# Altium footprint library AltiumDesigner.PcbLib: 3 footprints
Each footprint in its own frame and in the unit in brackets; x right, y up, seen from the top. Pads: shape width x height; smd on the part's side, far side on the other; paste and mask are expansions set on the pad; w line width, h text height; cw(c..) or ccw(c..) is an arc to the next point about the centre after c.
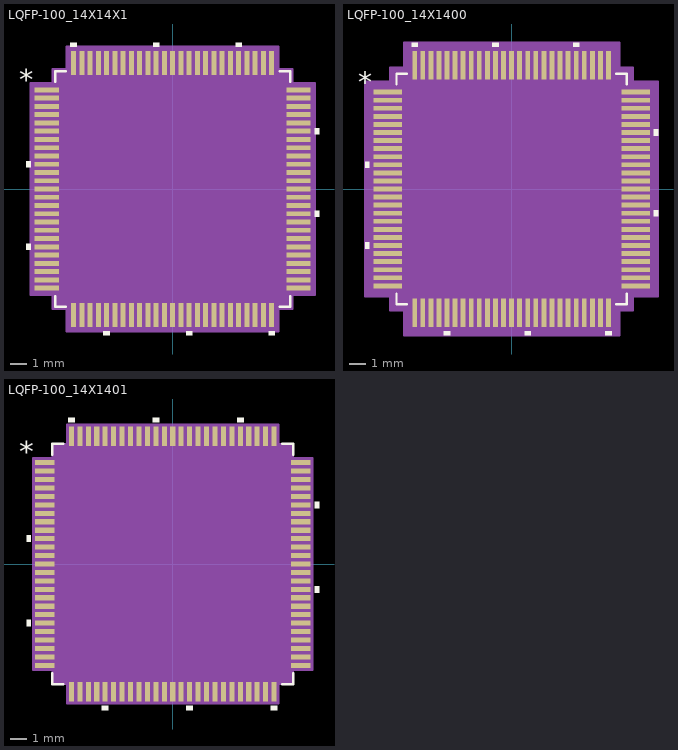
[diagram p0: the footprints below, top view; thin cyan lines are the x and y axes]

## LQFP-100_14X14X1 [mm]
pads (100):
  rect 1.461x0.3 smd paste+0 mask+0: 1(-7.625,6) 2(-7.625,5.5) 3(-7.625,5) 4(-7.625,4.5) 5(-7.625,4) 6(-7.625,3.5) 7(-7.625,3) 8(-7.625,2.5) 9(-7.625,2) 10(-7.625,1.5) 11(-7.625,1) 12(-7.625,0.5) 13(-7.625,0) 14(-7.625,-0.5) 15(-7.625,-1) 16(-7.625,-1.5) 17(-7.625,-2) 18(-7.625,-2.5) 19(-7.625,-3) 20(-7.625,-3.5) 21(-7.625,-4) 22(-7.625,-4.5) 23(-7.625,-5) 24(-7.625,-5.5) 25(-7.625,-6) 51(7.625,-6) 52(7.625,-5.5) 53(7.625,-5) 54(7.625,-4.5) 55(7.625,-4) 56(7.625,-3.5) 57(7.625,-3) 58(7.625,-2.5) 59(7.625,-2) 60(7.625,-1.5) 61(7.625,-1) 62(7.625,-0.5) 63(7.625,0) 64(7.625,0.5) 65(7.625,1) 66(7.625,1.5) 67(7.625,2) 68(7.625,2.5) 69(7.625,3) 70(7.625,3.5) 71(7.625,4) 72(7.625,4.5) 73(7.625,5) 74(7.625,5.5) 75(7.625,6)
  rect 0.3x1.461 smd paste+0 mask+0: 26(-6,-7.625) 27(-5.5,-7.625) 28(-5,-7.625) 29(-4.5,-7.625) 30(-4,-7.625) 31(-3.5,-7.625) 32(-3,-7.625) 33(-2.5,-7.625) 34(-2,-7.625) 35(-1.5,-7.625) 36(-1,-7.625) 37(-0.5,-7.625) 38(0,-7.625) 39(0.5,-7.625) 40(1,-7.625) 41(1.5,-7.625) 42(2,-7.625) 43(2.5,-7.625) 44(3,-7.625) 45(3.5,-7.625) 46(4,-7.625) 47(4.5,-7.625) 48(5,-7.625) 49(5.5,-7.625) 50(6,-7.625) 76(6,7.625) 77(5.5,7.625) 78(5,7.625) 79(4.5,7.625) 80(4,7.625) 81(3.5,7.625) 82(3,7.625) 83(2.5,7.625) 84(2,7.625) 85(1.5,7.625) 86(1,7.625) 87(0.5,7.625) 88(0,7.625) 89(-0.5,7.625) 90(-1,7.625) 91(-1.5,7.625) 92(-2,7.625) 93(-2.5,7.625) 94(-3,7.625) 95(-3.5,7.625) 96(-4,7.625) 97(-4.5,7.625) 98(-5,7.625) 99(-5.5,7.625) 100(-6,7.625)
Top Overlay:
  region: -5.81,8.61 -6.191,8.61 -6.191,8.864 -5.81,8.864
  region: -0.81,8.61 -1.191,8.61 -1.191,8.864 -0.81,8.864
  region: 4.19,8.61 3.809,8.61 3.809,8.864 4.19,8.864
  region: 8.61,3.691 8.864,3.691 8.864,3.31 8.61,3.31
  region: 8.61,-1.309 8.864,-1.309 8.864,-1.69 8.61,-1.69
  region: 6.191,-8.61 5.81,-8.61 5.81,-8.864 6.191,-8.864
  region: 1.191,-8.61 0.81,-8.61 0.81,-8.864 1.191,-8.864
  region: -3.809,-8.61 -4.19,-8.61 -4.19,-8.864 -3.809,-8.864
  region: -8.61,-3.31 -8.864,-3.31 -8.864,-3.691 -8.61,-3.691
  region: -8.61,1.69 -8.864,1.69 -8.864,1.309 -8.61,1.309
  lines w0.152: -7.127,-6.483 -7.127,-7.127 -6.483,-7.127 ; -7.127,6.483 -7.127,7.127 -6.483,7.127 ; 6.483,-7.127 7.127,-7.127 7.127,-6.483 ; 6.483,7.127 7.127,7.127 7.127,6.483
  text "*" at -9.308,5.996 h1.27
Mechanical 13:
  drawing of 405 lines, arcs and shapes, not listed
  text "*" at -6.936,5.615 h1.27
Mechanical 15:
  region: -6.404,-7.254 -7.254,-7.254 -7.254,-6.404 -8.61,-6.404 -8.61,6.404 -7.254,6.404 -7.254,7.254 -6.404,7.254 -6.404,8.61 6.404,8.61 6.404,7.254 7.254,7.254 7.254,6.404 8.61,6.404 8.61,-6.404 7.254,-6.404 7.254,-7.254 6.404,-7.254 6.404,-8.61 -6.404,-8.61
  lines w0.152: -8.61,-6.404 -8.61,6.404 -7.254,6.404 -7.254,7.254 -6.404,7.254 -6.404,8.61 6.404,8.61 6.404,7.254 7.254,7.254 7.254,6.404 8.61,6.404 8.61,-6.404 7.254,-6.404 7.254,-7.254 6.404,-7.254 6.404,-8.61 -6.404,-8.61 -6.404,-7.254 -7.254,-7.254 -7.254,-6.404 -8.61,-6.404
3D body: height 0.25, standoff 0, extent 0,0 0.254,0.254

## LQFP-100_14X1400 [mm]
pads (100):
  rect 1.766x0.3 smd paste+0 mask+0: 1(-7.676,6) 2(-7.676,5.5) 3(-7.676,5) 4(-7.676,4.5) 5(-7.676,4) 6(-7.676,3.5) 7(-7.676,3) 8(-7.676,2.5) 9(-7.676,2) 10(-7.676,1.5) 11(-7.676,1) 12(-7.676,0.5) 13(-7.676,0) 14(-7.676,-0.5) 15(-7.676,-1) 16(-7.676,-1.5) 17(-7.676,-2) 18(-7.676,-2.5) 19(-7.676,-3) 20(-7.676,-3.5) 21(-7.676,-4) 22(-7.676,-4.5) 23(-7.676,-5) 24(-7.676,-5.5) 25(-7.676,-6) 51(7.676,-6) 52(7.676,-5.5) 53(7.676,-5) 54(7.676,-4.5) 55(7.676,-4) 56(7.676,-3.5) 57(7.676,-3) 58(7.676,-2.5) 59(7.676,-2) 60(7.676,-1.5) 61(7.676,-1) 62(7.676,-0.5) 63(7.676,0) 64(7.676,0.5) 65(7.676,1) 66(7.676,1.5) 67(7.676,2) 68(7.676,2.5) 69(7.676,3) 70(7.676,3.5) 71(7.676,4) 72(7.676,4.5) 73(7.676,5) 74(7.676,5.5) 75(7.676,6)
  rect 0.3x1.766 smd paste+0 mask+0: 26(-6,-7.676) 27(-5.5,-7.676) 28(-5,-7.676) 29(-4.5,-7.676) 30(-4,-7.676) 31(-3.5,-7.676) 32(-3,-7.676) 33(-2.5,-7.676) 34(-2,-7.676) 35(-1.5,-7.676) 36(-1,-7.676) 37(-0.5,-7.676) 38(0,-7.676) 39(0.5,-7.676) 40(1,-7.676) 41(1.5,-7.676) 42(2,-7.676) 43(2.5,-7.676) 44(3,-7.676) 45(3.5,-7.676) 46(4,-7.676) 47(4.5,-7.676) 48(5,-7.676) 49(5.5,-7.676) 50(6,-7.676) 76(6,7.676) 77(5.5,7.676) 78(5,7.676) 79(4.5,7.676) 80(4,7.676) 81(3.5,7.676) 82(3,7.676) 83(2.5,7.676) 84(2,7.676) 85(1.5,7.676) 86(1,7.676) 87(0.5,7.676) 88(0,7.676) 89(-0.5,7.676) 90(-1,7.676) 91(-1.5,7.676) 92(-2,7.676) 93(-2.5,7.676) 94(-3,7.676) 95(-3.5,7.676) 96(-4,7.676) 97(-4.5,7.676) 98(-5,7.676) 99(-5.5,7.676) 100(-6,7.676)
Top Overlay:
  region: -5.81,8.813 -6.191,8.813 -6.191,9.067 -5.81,9.067
  region: -0.81,8.813 -1.191,8.813 -1.191,9.067 -0.81,9.067
  region: 4.19,8.813 3.809,8.813 3.809,9.067 4.19,9.067
  region: 8.813,3.691 9.067,3.691 9.067,3.31 8.813,3.31
  region: 8.813,-1.309 9.067,-1.309 9.067,-1.69 8.813,-1.69
  region: 6.191,-8.813 5.81,-8.813 5.81,-9.067 6.191,-9.067
  region: 1.191,-8.813 0.81,-8.813 0.81,-9.067 1.191,-9.067
  region: -3.809,-8.813 -4.19,-8.813 -4.19,-9.067 -3.809,-9.067
  region: -8.813,-3.31 -9.067,-3.31 -9.067,-3.691 -8.813,-3.691
  region: -8.813,1.69 -9.067,1.69 -9.067,1.309 -8.813,1.309
  lines w0.152: -7.127,-6.483 -7.127,-7.127 -6.483,-7.127 ; -7.127,6.483 -7.127,7.127 -6.483,7.127 ; 6.483,-7.127 7.127,-7.127 7.127,-6.483 ; 6.483,7.127 7.127,7.127 7.127,6.483
  text "*" at -9.511,5.996 h1.27
Mechanical 13:
  drawing of 405 lines, arcs and shapes, not listed
  text "*" at -6.936,5.615 h1.27
Mechanical 15:
  region: -6.658,-7.508 -7.508,-7.508 -7.508,-6.658 -9.067,-6.658 -9.067,6.658 -7.508,6.658 -7.508,7.508 -6.658,7.508 -6.658,9.067 6.658,9.067 6.658,7.508 7.508,7.508 7.508,6.658 9.067,6.658 9.067,-6.658 7.508,-6.658 7.508,-7.508 6.658,-7.508 6.658,-9.067 -6.658,-9.067
  lines w0.152: -9.067,-6.658 -9.067,6.658 -7.508,6.658 -7.508,7.508 -6.658,7.508 -6.658,9.067 6.658,9.067 6.658,7.508 7.508,7.508 7.508,6.658 9.067,6.658 9.067,-6.658 7.508,-6.658 7.508,-7.508 6.658,-7.508 6.658,-9.067 -6.658,-9.067 -6.658,-7.508 -7.508,-7.508 -7.508,-6.658 -9.067,-6.658
3D body: height 0.25, standoff 0, extent 0,0 0.254,0.254

## LQFP-100_14X1401 [mm]
pads (100):
  rect 1.156x0.3 smd paste+0 mask+0: 1(-7.574,6) 2(-7.574,5.5) 3(-7.574,5) 4(-7.574,4.5) 5(-7.574,4) 6(-7.574,3.5) 7(-7.574,3) 8(-7.574,2.5) 9(-7.574,2) 10(-7.574,1.5) 11(-7.574,1) 12(-7.574,0.5) 13(-7.574,0) 14(-7.574,-0.5) 15(-7.574,-1) 16(-7.574,-1.5) 17(-7.574,-2) 18(-7.574,-2.5) 19(-7.574,-3) 20(-7.574,-3.5) 21(-7.574,-4) 22(-7.574,-4.5) 23(-7.574,-5) 24(-7.574,-5.5) 25(-7.574,-6) 51(7.574,-6) 52(7.574,-5.5) 53(7.574,-5) 54(7.574,-4.5) 55(7.574,-4) 56(7.574,-3.5) 57(7.574,-3) 58(7.574,-2.5) 59(7.574,-2) 60(7.574,-1.5) 61(7.574,-1) 62(7.574,-0.5) 63(7.574,0) 64(7.574,0.5) 65(7.574,1) 66(7.574,1.5) 67(7.574,2) 68(7.574,2.5) 69(7.574,3) 70(7.574,3.5) 71(7.574,4) 72(7.574,4.5) 73(7.574,5) 74(7.574,5.5) 75(7.574,6)
  rect 0.3x1.156 smd paste+0 mask+0: 26(-6,-7.574) 27(-5.5,-7.574) 28(-5,-7.574) 29(-4.5,-7.574) 30(-4,-7.574) 31(-3.5,-7.574) 32(-3,-7.574) 33(-2.5,-7.574) 34(-2,-7.574) 35(-1.5,-7.574) 36(-1,-7.574) 37(-0.5,-7.574) 38(0,-7.574) 39(0.5,-7.574) 40(1,-7.574) 41(1.5,-7.574) 42(2,-7.574) 43(2.5,-7.574) 44(3,-7.574) 45(3.5,-7.574) 46(4,-7.574) 47(4.5,-7.574) 48(5,-7.574) 49(5.5,-7.574) 50(6,-7.574) 76(6,7.574) 77(5.5,7.574) 78(5,7.574) 79(4.5,7.574) 80(4,7.574) 81(3.5,7.574) 82(3,7.574) 83(2.5,7.574) 84(2,7.574) 85(1.5,7.574) 86(1,7.574) 87(0.5,7.574) 88(0,7.574) 89(-0.5,7.574) 90(-1,7.574) 91(-1.5,7.574) 92(-2,7.574) 93(-2.5,7.574) 94(-3,7.574) 95(-3.5,7.574) 96(-4,7.574) 97(-4.5,7.574) 98(-5,7.574) 99(-5.5,7.574) 100(-6,7.574)
Top Overlay:
  region: -5.81,8.406 -6.191,8.406 -6.191,8.66 -5.81,8.66
  region: -0.81,8.406 -1.191,8.406 -1.191,8.66 -0.81,8.66
  region: 4.19,8.406 3.809,8.406 3.809,8.66 4.19,8.66
  region: 8.406,3.691 8.66,3.691 8.66,3.31 8.406,3.31
  region: 8.406,-1.309 8.66,-1.309 8.66,-1.69 8.406,-1.69
  region: 6.191,-8.406 5.81,-8.406 5.81,-8.66 6.191,-8.66
  region: 1.191,-8.406 0.81,-8.406 0.81,-8.66 1.191,-8.66
  region: -3.809,-8.406 -4.19,-8.406 -4.19,-8.66 -3.809,-8.66
  region: -8.406,-3.31 -8.66,-3.31 -8.66,-3.691 -8.406,-3.691
  region: -8.406,1.69 -8.66,1.69 -8.66,1.309 -8.406,1.309
  lines w0.152: -7.127,-6.483 -7.127,-7.127 -6.483,-7.127 ; -7.127,6.483 -7.127,7.127 -6.483,7.127 ; 6.483,-7.127 7.127,-7.127 7.127,-6.483 ; 6.483,7.127 7.127,7.127 7.127,6.483
  text "*" at -9.105,5.996 h1.27
Mechanical 13:
  drawing of 405 lines, arcs and shapes, not listed
  text "*" at -6.936,5.615 h1.27
Mechanical 15:
  region: -6.252,-7.102 -7.102,-7.102 -7.102,-6.252 -8.254,-6.252 -8.254,6.252 -7.102,6.252 -7.102,7.102 -6.252,7.102 -6.252,8.254 6.252,8.254 6.252,7.102 7.102,7.102 7.102,6.252 8.254,6.252 8.254,-6.252 7.102,-6.252 7.102,-7.102 6.252,-7.102 6.252,-8.254 -6.252,-8.254
  lines w0.152: -8.254,-6.252 -8.254,6.252 -7.102,6.252 -7.102,7.102 -6.252,7.102 -6.252,8.254 6.252,8.254 6.252,7.102 7.102,7.102 7.102,6.252 8.254,6.252 8.254,-6.252 7.102,-6.252 7.102,-7.102 6.252,-7.102 6.252,-8.254 -6.252,-8.254 -6.252,-7.102 -7.102,-7.102 -7.102,-6.252 -8.254,-6.252
3D body: height 0.25, standoff 0, extent 0,0 0.254,0.254